# Altium footprint library PcbLib2.PcbLib: 1 footprints
Each footprint in its own frame and in the unit in brackets; x right, y up, seen from the top. Pads: shape width x height; smd on the part's side, far side on the other; paste and mask are expansions set on the pad; w line width, h text height; cw(c..) or ccw(c..) is an arc to the next point about the centre after c.
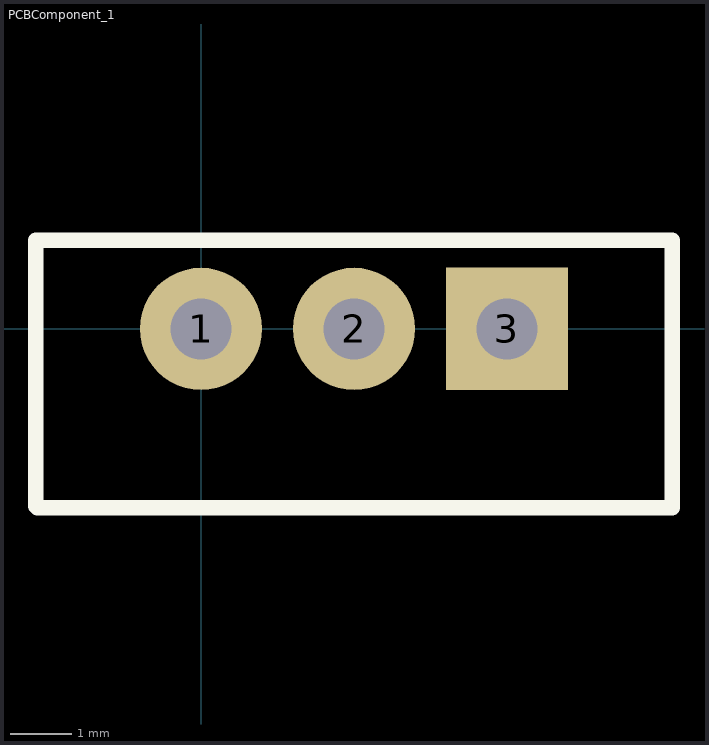
[diagram p0: the footprint, top view; thin cyan lines are the x and y axes]

## PCBComponent_1 [mm]
pads (3):
  round 2 hole 1: 1(0,0) 2(2.5,0)
  rect 2x2 hole 1: 3(5,0)
Top Overlay:
  lines w0.254: -2.7,-2.9 -2.675,-2.925 0.175,-2.925 7.075,-2.925 7.65,-2.925 7.7,-2.925 7.7,-0.25 7.7,1.45 7.575,1.45 -0.15,1.45 -2.7,1.45 -2.7,0.05 -2.7,-2.9